# Altium footprint library CL05A106MP8NUB8.PcbLib: 3 footprints
Each footprint in its own frame and in the unit in brackets; x right, y up, seen from the top. Pads: shape width x height; smd on the part's side, far side on the other; paste and mask are expansions set on the pad; w line width, h text height; cw(c..) or ccw(c..) is an arc to the next point about the centre after c.
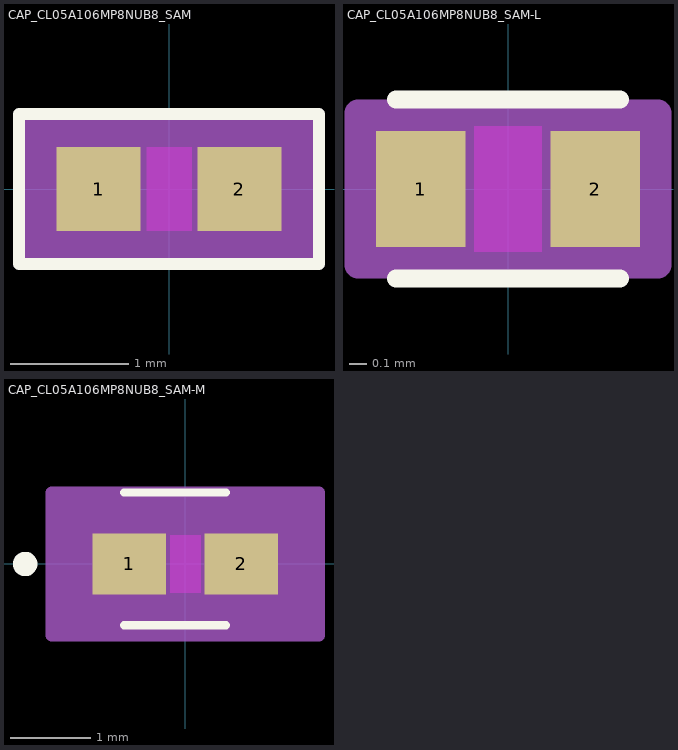
[diagram p0: the footprints below, top view; thin cyan lines are the x and y axes]

## CAP_CL05A106MP8NUB8_SAM [mil]
pads (2):
  rect 28x28 smd paste+0 mask+0: 1(-23.5,0) 2(23.5,0)
Top Layer keep-out:
  region: -7.5,-12 -7.5,12 7.5,12 7.5,-12
Top Overlay:
  lines w4: -50,-25 -50,25 50,25 50,-25 -50,-25
Keep-Out Layer:
  region: -7.5,-14 -7.5,14 7.5,14 7.5,-14
Mechanical 13:
  lines w1: -23.5,-14 -23.5,14 ; -23.5,-14 23.5,-14 ; -23.5,-14 -9.5,-14 -9.5,14 -23.5,14 ; -23.5,-14 -23.5,14 ; -23.5,14 23.5,14 ; 23.5,-14 23.5,14 ; 23.5,-14 23.5,14 ; 23.5,-14 9.5,-14 9.5,14 23.5,14
Mechanical 15:
  region: 47.5,-24 -47.5,-24 -47.5,24 47.5,24
  lines w6: -47.5,-24 47.5,-24 47.5,24 -47.5,24 -47.5,-24
3D body "CAP_CL05A106MP8NUB8_SAM.step": height 35, standoff 0, extent -23.5,-14.02 23.5,14.02

## CAP_CL05A106MP8NUB8_SAM-L [mil]
pads (2):
  rect 20x26 smd paste+0 mask+0: 1(-19.5,0) 2(19.5,0)
Top Layer keep-out:
  region: -7.5,-12 -7.5,12 7.5,12 7.5,-12
Top Overlay:
  lines w4: -25,-20 25,-20 ; -25,20 25,20
Keep-Out Layer:
  region: -7.5,-14 -7.5,14 7.5,14 7.5,-14
Mechanical 13:
  circle w0: c-14.5,0 r3
  lines w1: -23.5,-14 -23.5,14 ; -23.5,-14 23.5,-14 ; -23.5,-14 -9.5,-14 -9.5,14 -23.5,14 ; -23.5,-14 -23.5,14 ; -23.5,14 23.5,14 ; 23.5,-14 23.5,14 ; 23.5,-14 23.5,14 ; 23.5,-14 9.5,-14 9.5,14 23.5,14
Mechanical 15:
  region: 33.5,-17 -33.5,-17 -33.5,17 33.5,17
  lines w6: -33.5,-17 33.5,-17 33.5,17 -33.5,17 -33.5,-17
3D body "CAP_CL05A106MP8NUB8_SAM.step": height 35, standoff 0, extent -23.5,-14.02 23.5,14.02

## CAP_CL05A106MP8NUB8_SAM-M [mil]
pads (2):
  rect 36x30 smd paste+0 mask+0: 1(-27.5,0) 2(27.5,0)
Top Layer keep-out:
  region: -7.5,-12 -7.5,12 7.5,12 7.5,-12
Top Overlay:
  circle w6: c-78.5,0 r3
  lines w4: -30,-30 20,-30 ; -30,35 20,35
Keep-Out Layer:
  region: -7.5,-14 -7.5,14 7.5,14 7.5,-14
Mechanical 13:
  circle w0: c-22.5,0 r3
  lines w1: -23.5,-14 -23.5,14 ; -23.5,-14 23.5,-14 ; -23.5,-14 -9.5,-14 -9.5,14 -23.5,14 ; -23.5,-14 -23.5,14 ; -23.5,14 23.5,14 ; 23.5,-14 23.5,14 ; 23.5,-14 23.5,14 ; 23.5,-14 9.5,-14 9.5,14 23.5,14
Mechanical 15:
  region: 65.5,-35 -65.5,-35 -65.5,35 65.5,35
  lines w6: -65.5,-35 65.5,-35 65.5,35 -65.5,35 -65.5,-35
3D body "CAP_CL05A106MP8NUB8_SAM.step": height 35, standoff 0, extent -23.5,-14.02 23.5,14.02